# Altium schematic symbol library ControlAccessLib.SchLib: 11 symbols
Pins are listed as number, name and electrical type; pins without a type are passive.

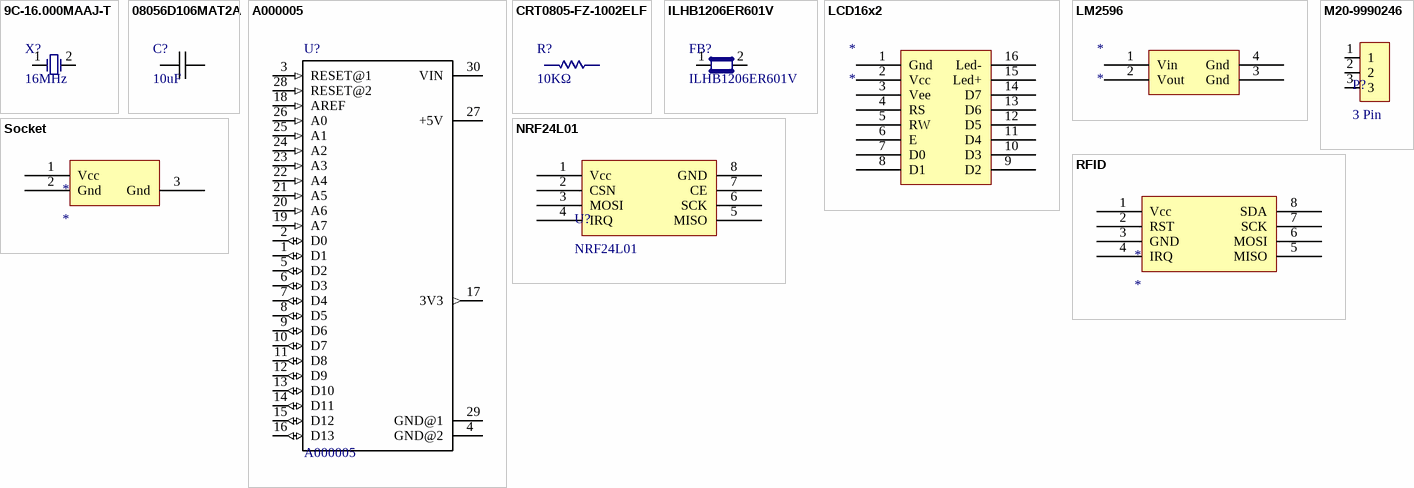
[diagram p0: symbols 9C-16.000MAAJ-T to Socket]

## 9C-16.000MAAJ-T
designator X?, comment 16MHz
CRYSTAL 16.000MHZ 18PF SMD; Manufacturer: TXC; Manufacturer Part Number: 9C-16.000MAAJ-T; Catalog Drawings: 9C Series Side 1 / 9C Series Side 2 / 9C Series Bottom; Frequency Stability: ±30ppm; ESR (Equivalent Series Resistance): 30 Ohm; Operating Mode: Fundamental; Dynamic Catalog: 9C Series; Other Names: 887-1059-2; Supplier 1: Newark; Stock 1: 0; Standard Package: 1,000; Category: Crystals and Oscillators; Family: Crystals; Series: 9C; Type: MHz Crystal; Frequency: 16MHz; Frequency Tolerance: ±30ppm; Load Capacitance: 18pF; Operating Temperature: -20°C ~ 70°C; Mounting Type: Surface Mount; Package / Case: HC49/US; Size / Dimension: 0.449" L x 0.189" W (11.40mm x 4.80mm); Height: 0.161" (4.10mm); Packaging: Tape & Reel (TR); ComponentLink1URL: https://datasheet.ciiva.com/857/9c-857185.pdf; ComponentLink1Description: https://datasheet.ciiva.com/857/9c-857185.pdf; ComponentLink2URL: https://datasheet.ciiva.com/857/9c-857186.pdf; ComponentLink2Description: https://datasheet.ciiva.com/857/9c-857186.pdf; ComponentLink3URL: https://datasheet.ciiva.com/857/9c-857187.pdf; ComponentLink3Description: https://datasheet.ciiva.com/857/9c-857187.pdf; ComponentLink4URL: https://datasheet.ciiva.com/1356/number-crystal-basic-1356998.pdf; ComponentLink4Description: https://datasheet.ciiva.com/1356/number-crystal-basic-1356998.pdf; ComponentLink5URL: https://datasheet.ciiva.com/22698/1041898-22698783.pdf; ComponentLink5Description: https://datasheet.ciiva.com/22698/1041898-22698783.pdf; Supplier Part Number 1: 84R5849
footprint XTAL_16
pins: 1, 2

## 08056D106MAT2A
designator C?, comment 10uF
CAP CER 10UF 6.3V X5R 0805; Manufacturer: Kyocera AVX; Manufacturer Part Number: 08056D106MAT2A; Capacitance: 10 µF; Tolerance (%): ±20 %; Supplier 1: Digi-Key; Stock 1: 0; Pricing 1: 1=0.25, 10=0.171, 100=0.0865, 500=0.0592, 1000=0.0524 (USD); Case Size/Dimension: 0805; Dielectric: X5R; Rated Voltage: 6.3 V; ComponentLink1URL: https://datasheet.ciiva.com/14604/70001028-14604773.pdf; ComponentLink1Description: https://datasheet.ciiva.com/14604/70001028-14604773.pdf; ComponentLink2URL: https://datasheet.ciiva.com/7812/lt-7812358.pdf; ComponentLink2Description: https://datasheet.ciiva.com/7812/lt-7812358.pdf; ComponentLink3URL: https://datasheet.ciiva.com/14596/70001028-14596822.pdf; ComponentLink3Description: https://datasheet.ciiva.com/14596/70001028-14596822.pdf; ComponentLink4URL: https://datasheet.ciiva.com/19476/2012671-19476375.pdf; ComponentLink4Description: https://datasheet.ciiva.com/19476/2012671-19476375.pdf; ComponentLink5URL: https://datasheet.ciiva.com/6169/lt-6169400.pdf; ComponentLink5Description: https://datasheet.ciiva.com/6169/lt-6169400.pdf; ComponentLink6URL: https://datasheet.ciiva.com/16326/cx5r-16326329.pdf; ComponentLink6Description: https://datasheet.ciiva.com/16326/cx5r-16326329.pdf; ComponentLink7URL: https://datasheet.ciiva.com/151/cx5r-151675.pdf; ComponentLink7Description: https://datasheet.ciiva.com/151/cx5r-151675.pdf; ComponentLink8URL: https://datasheet.ciiva.com/151/cx5r-151676.pdf; ComponentLink8Description: https://datasheet.ciiva.com/151/cx5r-151676.pdf; ComponentLink9URL: https://datasheet.ciiva.com/22682/1666675-22682876.pdf; ComponentLink9Description: https://datasheet.ciiva.com/22682/1666675-22682876.pdf; ComponentLink10URL: https://datasheet.ciiva.com/151/cx5r-151677.pdf; ComponentLink10Description: https://datasheet.ciiva.com/151/cx5r-151677.pdf; ComponentLink11URL: https://datasheet.ciiva.com/2988/cx5r-2988045.pdf; ComponentLink11Description: https://datasheet.ciiva.com/2988/cx5r-2988045.pdf; ComponentLink12URL: https://datasheet.ciiva.com/11464/cx5r-11464239.pdf; ComponentLink12Description: https://datasheet.ciiva.com/11464/cx5r-11464239.pdf; ComponentLink13URL: https://datasheet.ciiva.com/16536/cx5r-16536927.pdf; ComponentLink13Description: https://datasheet.ciiva.com/16536/cx5r-16536927.pdf; ComponentLink14URL: https://datasheet.ciiva.com/17493/cx5r-17493167.pdf; ComponentLink14Description: https://datasheet.ciiva.com/17493/cx5r-17493167.pdf; Supplier Part Number 1: 478-3648-1-ND
footprint C0805
pins: 1, 2

## A000005
designator U?
MICRO, ARDUINO NANO 3.0, MINI-B USB, ATmega328, 0.1DIP, ICSP HDR; SnapEDA_Link: https://www.snapeda.com/symbols-footprints/A000005/Arduino/view-part/?ref=snap; MP: A000005; Availability: Good; Price: 22.93 USD; Package: None; MF: Arduino; Value: *
footprint ARDUINO_A000005
pins: 1 D1 (io), 2 D0 (io), 3 RESET@1 (in), 4 GND@2 (power), 5 D2 (io), 6 D3 (io), 7 D4 (io), 8 D5 (io), 9 D6 (io), 10 D7 (io), 11 D8 (io), 12 D9 (io), 13 D10 (io), 14 D11 (io), 15 D12 (io), 16 D13 (io), 17 3V3 (out), 18 AREF (in), 19 A7 (in), 20 A6 (in), 21 A5 (in), 22 A4 (in), 23 A3 (in), 24 A2 (in), 25 A1 (in), 26 A0 (in), 27 +5V (power), 28 RESET@2 (in), 29 GND@1 (power), 30 VIN (power)

## CRT0805-FZ-1002ELF
designator R?, comment 10KΩ
RES SMD 10K OHM 1% 1/10W 0805; Manufacturer: Bourns; Manufacturer Part Number: CRT0805-FZ-1002ELF; Categoria prodotto: Resistori a pellicola sottile - SMD; Case Height: 0.55 mm; Case Length: 2 mm; Case Width: 1.25 mm; Package/involucro: 0805 (2012 metric); Potenza nominale: 125 mW (1/8 W); Confezione: Reel; Resistenza: 10 kOhms; Range di temperatura di lavoro: - 55 C to + 155 C; Stile di terminazione: SMD/SMT; Power Rating: 100 mW; Temperature Coefficient: 50 PPM / C; Voltage Rating: 100 V; Supplier 1: Digi-Key; Stock 1: 9449; Pricing 1: 1=0.19, 10=0.157, 25=0.1144, 50=0.083, 100=0.0615, 250=0.0472, 500=0.0372, 1000=0.0257 (USD); Case Code - in: 0805; Case Code - mm: 2012; Dimensions: 1.25 mm W x 2 mm L x 0.55 mm H; Operating Temperature Range: - 55 C to + 155 C; Package / Case: 0805 (2012 metric); Packaging: Reel; Produttore: Bourns; RoHS:: Dettagli; Tolleranza: 1 %; Termination Style: SMD/SMT; Product Category: Thin Film Resistors - SMD; RoHS: Details; Resistance: 10 kOhms; Tolerance: 1 %; Product: Precision Resistors Thin Film SMD; Series: CRT; Type: Thin Film Precision Chip Resistor; ComponentLink1URL: https://datasheet.ciiva.com/6548/crt-6548135.pdf; ComponentLink1Description: https://datasheet.ciiva.com/6548/crt-6548135.pdf; ComponentLink2URL: https://datasheet.ciiva.com/6548/crt-6548136.pdf; ComponentLink2Description: https://datasheet.ciiva.com/6548/crt-6548136.pdf; ComponentLink3URL: https://datasheet.ciiva.com/6548/crt-6548137.pdf; ComponentLink3Description: https://datasheet.ciiva.com/6548/crt-6548137.pdf; ComponentLink4URL: https://datasheet.ciiva.com/11810/0900766b80dd0f79-11810955.pdf; ComponentLink4Description: https://datasheet.ciiva.com/11810/0900766b80dd0f79-11810955.pdf; Supplier Part Number 1: CRT0805-FZ-1002ELFCT-ND
footprint RES0805
pins: 1, 2

## ILHB1206ER601V
designator FB?
Ferrite Beads Multi-Layer High Current 600Ohm 25% 100MHz 2.5A 100mOhm DCR 1206 T/R; Manufacturer: Vishay; Case Size (Inches): 1206; DC Current: 2500 mA; DC Resistance: 0.1 ohm; DELETED: Compliant; Inductance: Not Required uH; Product Depth (mm): 1.8 mm; Product Diameter (mm): Not Required mm; Product Height (mm): 1.3 mm; Product Length (mm): 3.4 mm; Rad Hardened: No; Shielding: Shielded; Type: High Current Bead; Supplier 1: Newark; Manufacturer Part Number: ILHB1206ER601V; Stock 1: 0; Core Material: Ferrite; Failure Rate: Not Required; Impedance: 600 ohm; Military Standard: Not Required; Operating Temp Range: -55C to 125C; Packaging: Tape and Reel; Technology: Multi-Layer; Test Frequency: 100 MHz; Tolerance (+ or -): 25%; ComponentLink1URL: https://datasheet.ciiva.com/3854/ilhb-3854096.pdf; ComponentLink1Description: https://datasheet.ciiva.com/3854/ilhb-3854096.pdf; ComponentLink2URL: https://datasheet.ciiva.com/46636/ilhb-46636117.pdf; ComponentLink2Description: https://datasheet.ciiva.com/46636/ilhb-46636117.pdf; ComponentLink3URL: https://datasheet.ciiva.com/7620/ilhb-7620251.pdf; ComponentLink3Description: https://datasheet.ciiva.com/7620/ilhb-7620251.pdf; ComponentLink4URL: https://datasheet.ciiva.com/6212/ilhb-6212044.pdf; ComponentLink4Description: https://datasheet.ciiva.com/6212/ilhb-6212044.pdf; ComponentLink5URL: https://datasheet.ciiva.com/15160/getdatasheetpartid-45507-15160140.pdf; ComponentLink5Description: https://datasheet.ciiva.com/15160/getdatasheetpartid-45507-15160140.pdf; ComponentLink6URL: https://datasheet.ciiva.com/8494/ilhb-8494783.pdf; ComponentLink6Description: https://datasheet.ciiva.com/8494/ilhb-8494783.pdf; Supplier Part Number 1: 55M4339
footprint FB1206
footprint FB1206
pins: 1, 2

## LCD16x2
designator *
footprint LCD16x2
pins: 1 Gnd, 2 Vcc, 3 Vee, 4 RS, 5 RW, 6 E, 7 D0, 8 D1, 9 D2, 10 D3, 11 D4, 12 D5, 13 D6, 14 D7, 15 Led+, 16 Led-

## LM2596
designator *
footprint LM2596
pins: 1 Vin, 2 Vout, 3 Gnd, 4 Gnd

## M20-9990246
designator P?, comment 3 Pin
Headers & Wire Housings 02 SIL VERTICAL PIN HEADER TIN; Manufacturer: Harwin; Manufacturer Part Number: M20-9990246; Connector Type: Header, Unshrouded, Breakaway; Number of Positions: 2; Number of Positions Loaded: All; Pitch: 0.100" (2.54mm); Dynamic Catalog: M20 Series; Mating Products: 952-2227-ND / - SIL FEMALE CRIMP HOUSING 2POS / 952-1776-ND / - 02-WAY SIL VERT SOCKET L/FREE / 952-1775-ND / - 02-WAY SIL VERT SOCKET L/FREE / 952-1774-ND / - 02-WAY SIL HORIZ SOCKET L/FREE; Other Names: 952-2262; Supplier 1: Digi-Key; Stock 1: 38058; Pricing 1: 1=0.11, 10=0.099, 100=0.0609, 500=0.0504, 1000=0.0441, 5000=0.0378, 10000=0.0368 (USD); Standard Package: 1,000; Category: Connectors, Interconnects; Family: Rectangular Connectors - Headers, Male Pins; Series: M20; Contact Type: Male Pin; Number of Rows: 1; Contact Mating Length: 0.240" (6.10mm); Mounting Type: Through Hole; Termination: Solder; Contact Finish: Tin; Color: Black; Packaging: Bulk; ComponentLink1URL: https://datasheet.ciiva.com/8046/315376-8046930.pdf; ComponentLink1Description: https://datasheet.ciiva.com/8046/315376-8046930.pdf; ComponentLink2URL: https://datasheet.ciiva.com/6833/m20-999-6833368.pdf; ComponentLink2Description: https://datasheet.ciiva.com/6833/m20-999-6833368.pdf; ComponentLink3URL: https://datasheet.ciiva.com/11745/0900766b81034e61-11745755.pdf; ComponentLink3Description: https://datasheet.ciiva.com/11745/0900766b81034e61-11745755.pdf; ComponentLink4URL: https://datasheet.ciiva.com/22660/1830818-22660571.pdf; ComponentLink4Description: https://datasheet.ciiva.com/22660/1830818-22660571.pdf; ComponentLink5URL: https://datasheet.ciiva.com/26852/getdatasheetpartid-384170-26852203.pdf; ComponentLink5Description: https://datasheet.ciiva.com/26852/getdatasheetpartid-384170-26852203.pdf; Supplier Part Number 1: 952-2262-ND
footprint PIN_HEADER_3
pins: 1, 2, 3

## NRF24L01
designator U?
footprint NRF24L01
pins: 1 Vcc, 2 CSN, 3 MOSI, 4 IRQ, 5 MISO, 6 SCK, 7 CE, 8 GND

## RFID
designator *
footprint RFID
pins: 1 Vcc, 2 RST, 3 GND, 4 IRQ, 5 MISO, 6 MOSI, 7 SCK, 8 SDA

## Socket
designator *
footprint Clema
pins: 1 Vcc, 2 Gnd, 3 Gnd